# Altium footprint library relay.PcbLib: 2 footprints
Each footprint in its own frame and in the unit in brackets; x right, y up, seen from the top. Pads: shape width x height; smd on the part's side, far side on the other; paste and mask are expansions set on the pad; w line width, h text height; cw(c..) or ccw(c..) is an arc to the next point about the centre after c.
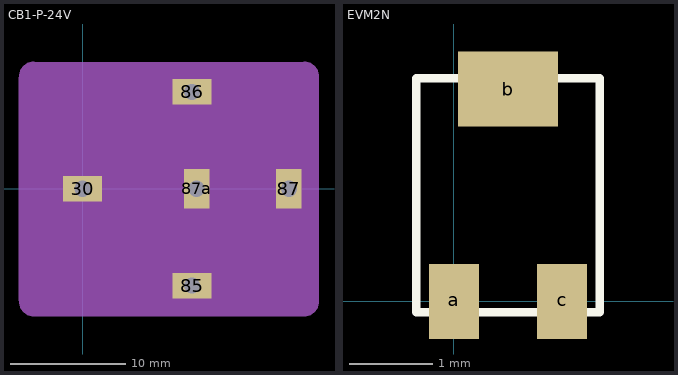
[diagram p0: the footprints below, top view; thin cyan lines are the x and y axes]

## CB1-P-24V [mm]
height 25
pads (5):
  rect 3.4x2.2 hole 1.4 square: 30(0,0) 85(9.5,-8.4) 86(9.5,8.4)
  rect 2.2x3.4 hole 1.4 square: 87(17.9,0) 87a(9.9,0)
Mechanical 1:
  drawing of 155 lines, arcs and shapes, not listed
  text "8" at 8.172,4.4 h1.2
  text "7" at 9.372,4.4 h1.2
  text "a" at 10.422,4.5 h1.2
  text "8" at 2.371,6.175 h1.2
  text "6" at 3.571,6.175 h1.2
  text "3" at -0.979,-4.625 h1.2
  text "0" at 0.221,-4.625 h1.2
  text "8" at 2.371,-7.425 h1.2
  text "5" at 3.571,-7.425 h1.2
  text "8" at 15.471,-7.225 h1.2
  text "7" at 16.671,-7.225 h1.2
3D body: height 25, standoff 1, extent -5.506,-11.032 20.507,10.982

## EVM2N [mm]
pads (3):
  rect 0.6x0.9 smd: a(0,0) c(1.3,0)
  rect 1.2x0.9 smd: b(0.65,2.55)
Top Overlay:
  lines w0.1: -0.45,-0.13 1.75,-0.13 1.75,2.68 -0.45,2.68 -0.45,-0.13